# Altium footprint library Demo_BIT.PcbLib: 58 footprints (part 2 of 4)
Each footprint in its own frame and in the unit in brackets; x right, y up, seen from the top. Pads: shape width x height; smd on the part's side, far side on the other; paste and mask are expansions set on the pad; w line width, h text height; cw(c..) or ccw(c..) is an arc to the next point about the centre after c.
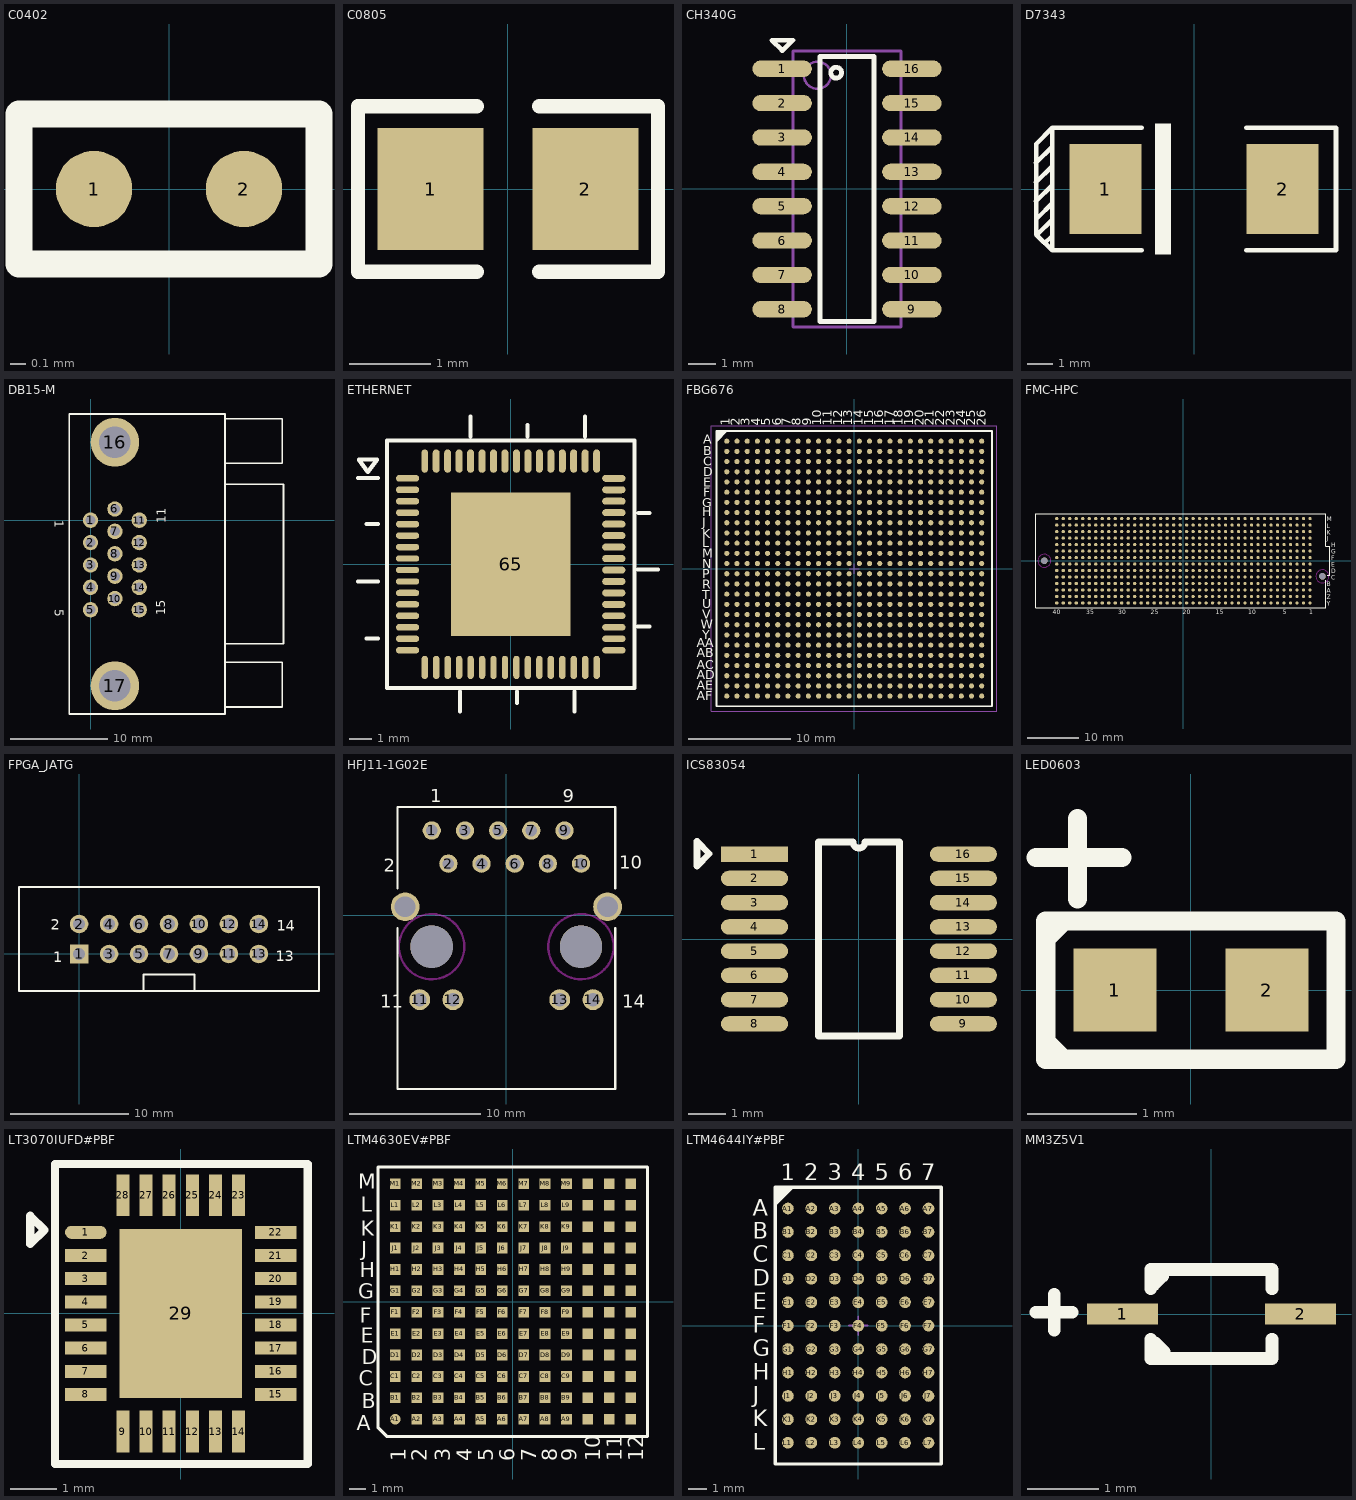
[diagram p1: the footprints below, top view; thin cyan lines are the x and y axes]

## C0402 [mil]
pads (2):
  round 20 smd: 1(-19.68,0) 2(19.68,0)
Top Overlay:
  lines w7: -39.37,-19.68 39.37,-19.68 39.37,19.68 -39.37,19.68 -39.37,-19.68

## C0805 [mm]
pads (2):
  rect 1.3x1.5 smd: 1(-0.95,0) 2(0.95,0)
Top Overlay:
  lines w0.178: -0.381,-1.019 -1.841,-1.019 -1.841,1.019 -0.381,1.019 ; 0.381,-1.019 1.842,-1.019 1.842,1.019 0.381,1.019

## CH340G [mm]
height 1.1
pads (16):
  oval 2.2x0.6 smd: 1(-2.4,4.445) 2(-2.4,3.175) 3(-2.4,1.905) 4(-2.4,0.635) 5(-2.4,-0.635) 6(-2.4,-1.905) 7(-2.4,-3.175) 8(-2.4,-4.445) 9(2.4,-4.445) 10(2.4,-3.175) 11(2.4,-1.905) 12(2.4,-0.635) 13(2.4,0.635) 14(2.4,1.905) 15(2.4,3.175) 16(2.4,4.445)
Top Overlay:
  circle w0.178: c-0.4,4.3 r0.2
  lines w0.178: -2.4,5.125 -2.775,5.5 -2,5.5 -2.375,5.125 ; -1,-4.9 -1,4.9 1,4.9 1,-4.9 -1,-4.9
Mechanical 13:
  circle w0.1: c-1.095,4.205 r0.5
  lines w0.1: -1.995,-5.105 -1.995,5.105 1.995,5.105 1.995,-5.105 -1.995,-5.105

## D7343 [mm]
height 1.1
pads (2):
  rect 2.8x3.5 smd: 1(-3.45,0) 2(3.45,0)
Top Overlay:
  rectangle: -1.524,-2.539 -0.889,2.541
  lines w0.178: -6.151,-0.474 -5.524,0.152 ; -6.151,0.263 -5.524,0.889 ; -6.151,1.025 -5.524,1.651 ; -6.092,-1.761 -5.524,-1.194 ; -6.092,-1.126 -5.524,-0.559 ; -5.817,-2.108 -5.524,-1.829 ; -2.032,-2.388 -5.524,-2.388 ; -2.032,2.388 -5.524,2.388 ; 2.032,-2.388 5.524,-2.388 5.524,2.388 2.032,2.388 ; -5.524,-2.388 -6.147,-1.778 -6.147,1.753 -5.524,2.388 ; -5.524,-2.388 -5.524,2.388

## DB15-M [mm] "VGAĸ"
height 10
pads (17):
  round 1.58 hole 1: 1(0,0) 2(0,-2.3) 3(0,-4.6) 4(0,-6.9) 5(0,-9.2) 6(2.5,1.15) 7(2.5,-1.15) 8(2.5,-3.45) 9(2.5,-5.75) 10(2.5,-8.05) 11(5,0) 12(5,-2.3) 13(5,-4.6) 14(5,-6.9) 15(5,-9.2)
  round 5 hole 3.25: 16(2.5,8) 17(2.5,-17)
Top Overlay:
  lines w0.178: -2.2,10.9 13.8,10.9 13.8,-19.9 -2.2,-19.9 -2.2,10.89 -2.19,10.9 ; 13.8,-14.6 19.68,-14.6 19.68,-19.18 13.84,-19.18 ; 13.8,-12.7 19.8,-12.7 19.8,3.7 13.8,3.7 ; 13.8,10.4 19.67,10.4 19.67,5.83 13.82,5.83
  text "1" at -3.691,0.013 h0.89
  text "5" at -3.691,-9.131 h0.89
  text "11" at 7.722,-0.305 h0.89
  text "15" at 7.671,-9.754 h0.89

## ETHERNET [mm]
height 1.1
pads (65):
  oval 1.016x0.279 smd: 1(-4.5,3.75) 2(-4.5,3.25) 3(-4.5,2.75) 4(-4.5,2.25) 5(-4.5,1.75) 6(-4.5,1.25) 7(-4.5,0.75) 8(-4.5,0.25) 9(-4.5,-0.25) 10(-4.5,-0.75) 11(-4.5,-1.25) 12(-4.5,-1.75) 13(-4.5,-2.25) 14(-4.5,-2.75) 15(-4.5,-3.25) 16(-4.5,-3.75) 33(4.5,-3.75) 34(4.5,-3.25) 35(4.5,-2.75) 36(4.5,-2.25)
  oval 0.279x1.016 smd: 17(-3.75,-4.5) 18(-3.25,-4.5) 19(-2.75,-4.5) 20(-2.25,-4.5) 21(-1.75,-4.5) 22(-1.25,-4.5) 23(-0.75,-4.5) 24(-0.25,-4.5) 25(0.25,-4.5) 26(0.75,-4.5) 27(1.25,-4.5) 28(1.75,-4.5) 29(2.25,-4.5) 30(2.75,-4.5) 31(3.25,-4.5) 32(3.75,-4.5) 64(-3.75,4.5)
  oval 1.016x0.305 smd: 37(4.5,-1.75) 38(4.5,-1.25) 39(4.5,-0.75) 40(4.5,-0.25) 41(4.5,0.25) 42(4.5,0.75) 43(4.5,1.25) 44(4.5,1.75) 45(4.5,2.25) 46(4.5,2.75) 47(4.5,3.25) 48(4.5,3.75)
  oval 0.305x1.016 smd: 49(3.75,4.5) 50(3.25,4.5) 51(2.75,4.5) 52(2.25,4.5) 53(1.75,4.5) 54(1.25,4.5) 55(0.75,4.5) 56(0.25,4.5) 57(-0.25,4.5) 58(-0.75,4.5) 59(-1.25,4.5) 60(-1.75,4.5) 61(-2.25,4.5) 62(-2.75,4.5) 63(-3.25,4.5)
  rect 5.21x6.25 smd: 65(0,0)
Top Overlay:
  lines w0.178: -6.662,-0.743 -5.798,-0.743 ; -6.662,3.757 -5.798,3.757 ; -6.292,-3.243 -5.798,-3.243 ; -6.292,1.757 -5.798,1.757 ; -2.217,-6.414 -2.217,-5.551 ; -1.76,5.575 -1.76,6.438 ; 0.283,-6.044 0.283,-5.551 ; 0.74,5.575 0.74,6.068 ; 2.783,-6.414 2.783,-5.551 ; 3.24,5.575 3.24,6.438 ; 5.563,-2.718 6.056,-2.718 ; 5.563,-0.229 6.426,-0.229 ; 5.566,2.243 6.06,2.243 ; -6.625,4.571 -6.233,4.025 -5.825,4.571 -6.625,4.571 ; -5.4,-5.4 5.4,-5.4 5.4,5.4 -5.4,5.4 -5.4,-5.4

## FBG676 [mm] "BGA, 676-Balls, Body 27x27mm, Pitch 1.0mm"
height 2.54
pads (676):
  round 0.5 smd: A1(-12.5,12.5) A2(-11.5,12.5) A3(-10.5,12.5) A4(-9.5,12.5) A5(-8.5,12.5) A6(-7.5,12.5) A7(-6.5,12.5) A8(-5.5,12.5) A9(-4.5,12.5) A10(-3.5,12.5) A11(-2.5,12.5) A12(-1.5,12.5) A13(-0.5,12.5) A14(0.5,12.5) A15(1.5,12.5) A16(2.5,12.5) A17(3.5,12.5) A18(4.5,12.5) A19(5.5,12.5) A20(6.5,12.5) A21(7.5,12.5) A22(8.5,12.5) A23(9.5,12.5) A24(10.5,12.5) A25(11.5,12.5) A26(12.5,12.5) AA1(-12.5,-7.5) AA2(-11.5,-7.5) AA3(-10.5,-7.5) AA4(-9.5,-7.5) AA5(-8.5,-7.5) AA6(-7.5,-7.5) AA7(-6.5,-7.5) AA8(-5.5,-7.5) AA9(-4.5,-7.5) AA10(-3.5,-7.5) AA11(-2.5,-7.5) AA12(-1.5,-7.5) AA13(-0.5,-7.5) AA14(0.5,-7.5) AA15(1.5,-7.5) AA16(2.5,-7.5) AA17(3.5,-7.5) AA18(4.5,-7.5) AA19(5.5,-7.5) AA20(6.5,-7.5) AA21(7.5,-7.5) AA22(8.5,-7.5) AA23(9.5,-7.5) AA24(10.5,-7.5) AA25(11.5,-7.5) AA26(12.5,-7.5) AB1(-12.5,-8.5) AB2(-11.5,-8.5) AB3(-10.5,-8.5) AB4(-9.5,-8.5) AB5(-8.5,-8.5) AB6(-7.5,-8.5) AB7(-6.5,-8.5) AB8(-5.5,-8.5) AB9(-4.5,-8.5) AB10(-3.5,-8.5) AB11(-2.5,-8.5) AB12(-1.5,-8.5) AB13(-0.5,-8.5) AB14(0.5,-8.5) AB15(1.5,-8.5) AB16(2.5,-8.5) AB17(3.5,-8.5) AB18(4.5,-8.5) AB19(5.5,-8.5) AB20(6.5,-8.5) AB21(7.5,-8.5) AB22(8.5,-8.5) AB23(9.5,-8.5) AB24(10.5,-8.5) AB25(11.5,-8.5) AB26(12.5,-8.5) AC1(-12.5,-9.5) AC2(-11.5,-9.5) AC3(-10.5,-9.5) AC4(-9.5,-9.5) AC5(-8.5,-9.5) AC6(-7.5,-9.5) AC7(-6.5,-9.5) AC8(-5.5,-9.5) AC9(-4.5,-9.5) AC10(-3.5,-9.5) AC11(-2.5,-9.5) AC12(-1.5,-9.5) AC13(-0.5,-9.5) AC14(0.5,-9.5) AC15(1.5,-9.5) AC16(2.5,-9.5) AC17(3.5,-9.5) AC18(4.5,-9.5) AC19(5.5,-9.5) AC20(6.5,-9.5) AC21(7.5,-9.5) AC22(8.5,-9.5) AC23(9.5,-9.5) AC24(10.5,-9.5) AC25(11.5,-9.5) AC26(12.5,-9.5) AD1(-12.5,-10.5) AD2(-11.5,-10.5) AD3(-10.5,-10.5) AD4(-9.5,-10.5) AD5(-8.5,-10.5) AD6(-7.5,-10.5) AD7(-6.5,-10.5) AD8(-5.5,-10.5) AD9(-4.5,-10.5) AD10(-3.5,-10.5) AD11(-2.5,-10.5) AD12(-1.5,-10.5) AD13(-0.5,-10.5) AD14(0.5,-10.5) AD15(1.5,-10.5) AD16(2.5,-10.5) AD17(3.5,-10.5) AD18(4.5,-10.5) AD19(5.5,-10.5) AD20(6.5,-10.5) AD21(7.5,-10.5) AD22(8.5,-10.5) AD23(9.5,-10.5) AD24(10.5,-10.5) AD25(11.5,-10.5) AD26(12.5,-10.5) AE1(-12.5,-11.5) AE2(-11.5,-11.5) AE3(-10.5,-11.5) AE4(-9.5,-11.5) AE5(-8.5,-11.5) AE6(-7.5,-11.5) AE7(-6.5,-11.5) AE8(-5.5,-11.5) AE9(-4.5,-11.5) AE10(-3.5,-11.5) AE11(-2.5,-11.5) AE12(-1.5,-11.5) AE13(-0.5,-11.5) AE14(0.5,-11.5) AE15(1.5,-11.5) AE16(2.5,-11.5) AE17(3.5,-11.5) AE18(4.5,-11.5) AE19(5.5,-11.5) AE20(6.5,-11.5) AE21(7.5,-11.5) AE22(8.5,-11.5) AE23(9.5,-11.5) AE24(10.5,-11.5) AE25(11.5,-11.5) AE26(12.5,-11.5) AF1(-12.5,-12.5) AF2(-11.5,-12.5) AF3(-10.5,-12.5) AF4(-9.5,-12.5) AF5(-8.5,-12.5) AF6(-7.5,-12.5) AF7(-6.5,-12.5) AF8(-5.5,-12.5) AF9(-4.5,-12.5) AF10(-3.5,-12.5) AF11(-2.5,-12.5) AF12(-1.5,-12.5) AF13(-0.5,-12.5) AF14(0.5,-12.5) AF15(1.5,-12.5) AF16(2.5,-12.5) AF17(3.5,-12.5) AF18(4.5,-12.5) AF19(5.5,-12.5) AF20(6.5,-12.5) AF21(7.5,-12.5) AF22(8.5,-12.5) AF23(9.5,-12.5) AF24(10.5,-12.5) AF25(11.5,-12.5) AF26(12.5,-12.5) B1(-12.5,11.5) B2(-11.5,11.5) B3(-10.5,11.5) B4(-9.5,11.5) B5(-8.5,11.5) B6(-7.5,11.5) B7(-6.5,11.5) B8(-5.5,11.5) B9(-4.5,11.5) B10(-3.5,11.5) B11(-2.5,11.5) B12(-1.5,11.5) B13(-0.5,11.5) B14(0.5,11.5) B15(1.5,11.5) B16(2.5,11.5) B17(3.5,11.5) B18(4.5,11.5) B19(5.5,11.5) B20(6.5,11.5) B21(7.5,11.5) B22(8.5,11.5) B23(9.5,11.5) B24(10.5,11.5) B25(11.5,11.5) B26(12.5,11.5) C1(-12.5,10.5) C2(-11.5,10.5) C3(-10.5,10.5) C4(-9.5,10.5) C5(-8.5,10.5) C6(-7.5,10.5) C7(-6.5,10.5) C8(-5.5,10.5) C9(-4.5,10.5) C10(-3.5,10.5) C11(-2.5,10.5) C12(-1.5,10.5) C13(-0.5,10.5) C14(0.5,10.5) C15(1.5,10.5) C16(2.5,10.5) C17(3.5,10.5) C18(4.5,10.5) C19(5.5,10.5) C20(6.5,10.5) C21(7.5,10.5) C22(8.5,10.5) C23(9.5,10.5) C24(10.5,10.5) C25(11.5,10.5) C26(12.5,10.5) D1(-12.5,9.5) D2(-11.5,9.5) D3(-10.5,9.5) D4(-9.5,9.5) D5(-8.5,9.5) D6(-7.5,9.5) D7(-6.5,9.5) D8(-5.5,9.5) D9(-4.5,9.5) D10(-3.5,9.5) D11(-2.5,9.5) D12(-1.5,9.5) D13(-0.5,9.5) D14(0.5,9.5) D15(1.5,9.5) D16(2.5,9.5) D17(3.5,9.5) D18(4.5,9.5) D19(5.5,9.5) D20(6.5,9.5) D21(7.5,9.5) D22(8.5,9.5) D23(9.5,9.5) D24(10.5,9.5) D25(11.5,9.5) D26(12.5,9.5) E1(-12.5,8.5) E2(-11.5,8.5) E3(-10.5,8.5) E4(-9.5,8.5) E5(-8.5,8.5) E6(-7.5,8.5) E7(-6.5,8.5) E8(-5.5,8.5) E9(-4.5,8.5) E10(-3.5,8.5) E11(-2.5,8.5) E12(-1.5,8.5) E13(-0.5,8.5) E14(0.5,8.5) E15(1.5,8.5) E16(2.5,8.5) E17(3.5,8.5) E18(4.5,8.5) E19(5.5,8.5) E20(6.5,8.5) E21(7.5,8.5) E22(8.5,8.5) E23(9.5,8.5) E24(10.5,8.5) E25(11.5,8.5) E26(12.5,8.5) F1(-12.5,7.5) F2(-11.5,7.5) F3(-10.5,7.5) F4(-9.5,7.5) F5(-8.5,7.5) F6(-7.5,7.5) F7(-6.5,7.5) F8(-5.5,7.5) F9(-4.5,7.5) F10(-3.5,7.5) F11(-2.5,7.5) F12(-1.5,7.5) F13(-0.5,7.5) F14(0.5,7.5) F15(1.5,7.5) F16(2.5,7.5) F17(3.5,7.5) F18(4.5,7.5) F19(5.5,7.5) F20(6.5,7.5) F21(7.5,7.5) F22(8.5,7.5) F23(9.5,7.5) F24(10.5,7.5) F25(11.5,7.5) F26(12.5,7.5) G1(-12.5,6.5) G2(-11.5,6.5) G3(-10.5,6.5) G4(-9.5,6.5) G5(-8.5,6.5) G6(-7.5,6.5) G7(-6.5,6.5) G8(-5.5,6.5) G9(-4.5,6.5) G10(-3.5,6.5) G11(-2.5,6.5) G12(-1.5,6.5) G13(-0.5,6.5) G14(0.5,6.5) G15(1.5,6.5) G16(2.5,6.5) G17(3.5,6.5) G18(4.5,6.5) G19(5.5,6.5) G20(6.5,6.5) G21(7.5,6.5) G22(8.5,6.5) G23(9.5,6.5) G24(10.5,6.5) G25(11.5,6.5) G26(12.5,6.5) H1(-12.5,5.5) H2(-11.5,5.5) H3(-10.5,5.5) H4(-9.5,5.5) H5(-8.5,5.5) H6(-7.5,5.5) H7(-6.5,5.5) H8(-5.5,5.5) H9(-4.5,5.5) H10(-3.5,5.5) H11(-2.5,5.5) H12(-1.5,5.5) H13(-0.5,5.5) H14(0.5,5.5) H15(1.5,5.5) H16(2.5,5.5) H17(3.5,5.5) H18(4.5,5.5) H19(5.5,5.5) H20(6.5,5.5) H21(7.5,5.5) H22(8.5,5.5) H23(9.5,5.5) H24(10.5,5.5) H25(11.5,5.5) H26(12.5,5.5) J1(-12.5,4.5) J2(-11.5,4.5) J3(-10.5,4.5) J4(-9.5,4.5) J5(-8.5,4.5) J6(-7.5,4.5) J7(-6.5,4.5) J8(-5.5,4.5) J9(-4.5,4.5) J10(-3.5,4.5) J11(-2.5,4.5) J12(-1.5,4.5) J13(-0.5,4.5) J14(0.5,4.5) J15(1.5,4.5) J16(2.5,4.5) J17(3.5,4.5) J18(4.5,4.5) J19(5.5,4.5) J20(6.5,4.5) J21(7.5,4.5) J22(8.5,4.5) J23(9.5,4.5) J24(10.5,4.5) J25(11.5,4.5) J26(12.5,4.5) K1(-12.5,3.5) K2(-11.5,3.5) K3(-10.5,3.5) K4(-9.5,3.5) K5(-8.5,3.5) K6(-7.5,3.5) K7(-6.5,3.5) K8(-5.5,3.5) K9(-4.5,3.5) K10(-3.5,3.5) K11(-2.5,3.5) K12(-1.5,3.5) K13(-0.5,3.5) K14(0.5,3.5) K15(1.5,3.5) K16(2.5,3.5) K17(3.5,3.5) K18(4.5,3.5) K19(5.5,3.5) K20(6.5,3.5) K21(7.5,3.5) K22(8.5,3.5) K23(9.5,3.5) K24(10.5,3.5) K25(11.5,3.5) K26(12.5,3.5) L1(-12.5,2.5) L2(-11.5,2.5) L3(-10.5,2.5) L4(-9.5,2.5) L5(-8.5,2.5) L6(-7.5,2.5) L7(-6.5,2.5) L8(-5.5,2.5) L9(-4.5,2.5) L10(-3.5,2.5) L11(-2.5,2.5) L12(-1.5,2.5) L13(-0.5,2.5) L14(0.5,2.5) L15(1.5,2.5) L16(2.5,2.5) L17(3.5,2.5) L18(4.5,2.5) L19(5.5,2.5) L20(6.5,2.5) L21(7.5,2.5) L22(8.5,2.5) L23(9.5,2.5) L24(10.5,2.5) L25(11.5,2.5) L26(12.5,2.5) M1(-12.5,1.5) M2(-11.5,1.5) M3(-10.5,1.5) M4(-9.5,1.5) M5(-8.5,1.5) M6(-7.5,1.5) M7(-6.5,1.5) M8(-5.5,1.5) M9(-4.5,1.5) M10(-3.5,1.5) M11(-2.5,1.5) M12(-1.5,1.5) M13(-0.5,1.5) M14(0.5,1.5) M15(1.5,1.5) M16(2.5,1.5) M17(3.5,1.5) M18(4.5,1.5) M19(5.5,1.5) M20(6.5,1.5) M21(7.5,1.5) M22(8.5,1.5) M23(9.5,1.5) M24(10.5,1.5) M25(11.5,1.5) M26(12.5,1.5) N1(-12.5,0.5) N2(-11.5,0.5) N3(-10.5,0.5) N4(-9.5,0.5) N5(-8.5,0.5) N6(-7.5,0.5) N7(-6.5,0.5) N8(-5.5,0.5) N9(-4.5,0.5) N10(-3.5,0.5) N11(-2.5,0.5) N12(-1.5,0.5) N13(-0.5,0.5) N14(0.5,0.5) N15(1.5,0.5) N16(2.5,0.5) N17(3.5,0.5) N18(4.5,0.5) N19(5.5,0.5) N20(6.5,0.5) N21(7.5,0.5) N22(8.5,0.5) N23(9.5,0.5) N24(10.5,0.5) N25(11.5,0.5) N26(12.5,0.5) P1(-12.5,-0.5) P2(-11.5,-0.5) P3(-10.5,-0.5) P4(-9.5,-0.5) P5(-8.5,-0.5) P6(-7.5,-0.5) P7(-6.5,-0.5) P8(-5.5,-0.5) P9(-4.5,-0.5) P10(-3.5,-0.5) P11(-2.5,-0.5) P12(-1.5,-0.5) P13(-0.5,-0.5) P14(0.5,-0.5) P15(1.5,-0.5) P16(2.5,-0.5) P17(3.5,-0.5) P18(4.5,-0.5) P19(5.5,-0.5) P20(6.5,-0.5) P21(7.5,-0.5) P22(8.5,-0.5) P23(9.5,-0.5) P24(10.5,-0.5) P25(11.5,-0.5) P26(12.5,-0.5) R1(-12.5,-1.5) R2(-11.5,-1.5) R3(-10.5,-1.5) R4(-9.5,-1.5) R5(-8.5,-1.5) R6(-7.5,-1.5) R7(-6.5,-1.5) R8(-5.5,-1.5) R9(-4.5,-1.5) R10(-3.5,-1.5) R11(-2.5,-1.5) R12(-1.5,-1.5) R13(-0.5,-1.5) R14(0.5,-1.5) R15(1.5,-1.5) R16(2.5,-1.5) R17(3.5,-1.5) R18(4.5,-1.5) R19(5.5,-1.5) R20(6.5,-1.5) R21(7.5,-1.5) R22(8.5,-1.5) R23(9.5,-1.5) R24(10.5,-1.5) R25(11.5,-1.5) R26(12.5,-1.5) T1(-12.5,-2.5) T2(-11.5,-2.5) T3(-10.5,-2.5) T4(-9.5,-2.5) T5(-8.5,-2.5) T6(-7.5,-2.5) T7(-6.5,-2.5) T8(-5.5,-2.5) T9(-4.5,-2.5) T10(-3.5,-2.5) T11(-2.5,-2.5) T12(-1.5,-2.5) T13(-0.5,-2.5) T14(0.5,-2.5) T15(1.5,-2.5) T16(2.5,-2.5) T17(3.5,-2.5) T18(4.5,-2.5) T19(5.5,-2.5) T20(6.5,-2.5) T21(7.5,-2.5) T22(8.5,-2.5) T23(9.5,-2.5) T24(10.5,-2.5) T25(11.5,-2.5) T26(12.5,-2.5) U1(-12.5,-3.5) U2(-11.5,-3.5) U3(-10.5,-3.5) U4(-9.5,-3.5) U5(-8.5,-3.5) U6(-7.5,-3.5) U7(-6.5,-3.5) U8(-5.5,-3.5) U9(-4.5,-3.5) U10(-3.5,-3.5) U11(-2.5,-3.5) U12(-1.5,-3.5) U13(-0.5,-3.5) U14(0.5,-3.5) U15(1.5,-3.5) U16(2.5,-3.5) U17(3.5,-3.5) U18(4.5,-3.5) U19(5.5,-3.5) U20(6.5,-3.5) U21(7.5,-3.5) U22(8.5,-3.5) U23(9.5,-3.5) U24(10.5,-3.5) U25(11.5,-3.5) U26(12.5,-3.5) V1(-12.5,-4.5) V2(-11.5,-4.5) V3(-10.5,-4.5) V4(-9.5,-4.5) V5(-8.5,-4.5) V6(-7.5,-4.5) V7(-6.5,-4.5) V8(-5.5,-4.5) V9(-4.5,-4.5) V10(-3.5,-4.5) V11(-2.5,-4.5) V12(-1.5,-4.5) V13(-0.5,-4.5) V14(0.5,-4.5) V15(1.5,-4.5) V16(2.5,-4.5) V17(3.5,-4.5) V18(4.5,-4.5) V19(5.5,-4.5) V20(6.5,-4.5) V21(7.5,-4.5) V22(8.5,-4.5) V23(9.5,-4.5) V24(10.5,-4.5) V25(11.5,-4.5) V26(12.5,-4.5) W1(-12.5,-5.5) W2(-11.5,-5.5) W3(-10.5,-5.5) W4(-9.5,-5.5) W5(-8.5,-5.5) W6(-7.5,-5.5) W7(-6.5,-5.5) W8(-5.5,-5.5) W9(-4.5,-5.5) W10(-3.5,-5.5) W11(-2.5,-5.5) W12(-1.5,-5.5) W13(-0.5,-5.5) W14(0.5,-5.5) W15(1.5,-5.5) W16(2.5,-5.5) W17(3.5,-5.5) W18(4.5,-5.5) W19(5.5,-5.5) W20(6.5,-5.5) W21(7.5,-5.5) W22(8.5,-5.5) W23(9.5,-5.5) W24(10.5,-5.5) W25(11.5,-5.5) W26(12.5,-5.5) Y1(-12.5,-6.5) Y2(-11.5,-6.5) Y3(-10.5,-6.5) Y4(-9.5,-6.5) Y5(-8.5,-6.5) Y6(-7.5,-6.5) Y7(-6.5,-6.5) Y8(-5.5,-6.5) Y9(-4.5,-6.5) Y10(-3.5,-6.5) Y11(-2.5,-6.5) Y12(-1.5,-6.5) Y13(-0.5,-6.5) Y14(0.5,-6.5) Y15(1.5,-6.5) Y16(2.5,-6.5) Y17(3.5,-6.5) Y18(4.5,-6.5) Y19(5.5,-6.5) Y20(6.5,-6.5) Y21(7.5,-6.5) Y22(8.5,-6.5) Y23(9.5,-6.5) Y24(10.5,-6.5) Y25(11.5,-6.5) Y26(12.5,-6.5)
Top Overlay:
  region: -12.5,13.5 -13.5,12.5 -13.5,13.5
  lines w0.178: -13.5,12.5 -12.5,13.5 ; -13.5,-13.5 -13.5,13.5 13.5,13.5 13.5,-13.5 -13.5,-13.5
  text "16" at 2.867,14.024 h0.89
  text "17" at 3.883,14.024 h0.89
  text "24" at 10.868,14.024 h0.89
  text "25" at 11.884,14.024 h0.89
  text "22" at 8.836,14.024 h0.89
  text "23" at 9.852,14.024 h0.89
  text "20" at 6.804,14.024 h0.89
  text "21" at 7.82,14.024 h0.89
  text "18" at 4.772,14.024 h0.89
  text "19" at 5.788,14.024 h0.89
  text "4" at -9.198,14.024 h0.89
  text "3" at -10.231,14.009 h0.89
  text "6" at -7.166,14.024 h0.89
  text "5" at -8.231,14.009 h0.89
  text "8" at -5.261,14.024 h0.89
  text "7" at -6.231,14.009 h0.89
  text "10" at -3.229,14.024 h0.89
  text "12" at -1.197,14.024 h0.89
  text "11" at -2.213,14.024 h0.89
  text "14" at 0.835,14.024 h0.89
  text "13" at -0.181,14.024 h0.89
  text "15" at 1.851,14.024 h0.89
  text "2" at -11.23,14.024 h0.89
  text "1" at -12.231,14.009 h0.89
  text "9" at -4.231,14.009 h0.89
  text "26" at 12.9,14.024 h0.89
  text "R" at -14.913,-1.978 h0.89
  text "B" at -14.786,11.103 h0.89
  text "A" at -14.786,12.246 h0.89
  text "C" at -14.786,10.087 h0.89
  text "D" at -14.786,9.071 h0.89
  text "E" at -14.786,8.055 h0.89
  text "F" at -14.786,7.039 h0.89
  text "G" at -14.913,6.023 h0.89
  text "H" at -14.913,5.134 h0.89
  text "J" at -14.913,4.118 h0.89
  text "K" at -14.913,2.975 h0.89
  text "L" at -14.913,2.086 h0.89
  text "M" at -14.913,1.07 h0.89
  text "P" at -14.913,-0.962 h0.89
  text "U" at -14.913,-3.883 h0.89
  text "T" at -14.913,-2.994 h0.89
  text "V" at -14.913,-4.899 h0.89
  text "W" at -15.04,-5.915 h0.89
  text "Y" at -14.913,-6.931 h0.89
  text "AB" at -15.421,-8.709 h0.89
  text "AC" at -15.421,-9.852 h0.89
  text "AD" at -15.421,-10.868 h0.89
  text "AF" at -15.421,-12.9 h0.89
  text "N" at -14.913,0.054 h0.89
  text "AA" at -15.421,-7.693 h0.89
  text "AE" at -15.421,-11.884 h0.89
Mechanical 13:
  lines w0.1: -13.5,-13.5 -13.5,13.5 13.5,13.5 13.5,-13.5 -13.5,-13.5
Mechanical 15:
  lines w0.05: -14,-14 -14,14 14,14 14,-14 -14,-14
  lines w0.1: -0.5,0 0.5,0 ; 0,-0.5 0,0.5
3D body: height 2.54, standoff 0.4, extent -13.5,-13.5 13.5,13.5

## FMC-HPC [mm]
height 1.3
pads (562):
  round 0.64 smd: A1(24.765,-5.715) A2(23.495,-5.715) A3(22.225,-5.715) A4(20.955,-5.715) A5(19.685,-5.715) A6(18.415,-5.715) A7(17.145,-5.715) A8(15.875,-5.715) A9(14.605,-5.715) A10(13.335,-5.715) A11(12.065,-5.715) A12(10.795,-5.715) A13(9.525,-5.715) A14(8.255,-5.715) A15(6.985,-5.715) A16(5.715,-5.715) A17(4.445,-5.715) A18(3.175,-5.715) A19(1.905,-5.715) A20(0.635,-5.715) A21(-0.635,-5.715) A22(-1.905,-5.715) A23(-3.175,-5.715) A24(-4.445,-5.715) A25(-5.715,-5.715) A26(-6.985,-5.715) A27(-8.255,-5.715) A28(-9.525,-5.715) A29(-10.795,-5.715) A30(-12.065,-5.715) A31(-13.335,-5.715) A32(-14.605,-5.715) A33(-15.875,-5.715) A34(-17.145,-5.715) A35(-18.415,-5.715) A36(-19.685,-5.715) A37(-20.955,-5.715) A38(-22.225,-5.715) A39(-23.495,-5.715) A40(-24.765,-5.715) B1(24.765,-4.445) B2(23.495,-4.445) B3(22.225,-4.445) B4(20.955,-4.445) B5(19.685,-4.445) B6(18.415,-4.445) B7(17.145,-4.445) B8(15.875,-4.445) B9(14.605,-4.445) B10(13.335,-4.445) B11(12.065,-4.445) B12(10.795,-4.445) B13(9.525,-4.445) B14(8.255,-4.445) B15(6.985,-4.445) B16(5.715,-4.445) B17(4.445,-4.445) B18(3.175,-4.445) B19(1.905,-4.445) B20(0.635,-4.445) B21(-0.635,-4.445) B22(-1.905,-4.445) B23(-3.175,-4.445) B24(-4.445,-4.445) B25(-5.715,-4.445) B26(-6.985,-4.445) B27(-8.255,-4.445) B28(-9.525,-4.445) B29(-10.795,-4.445) B30(-12.065,-4.445) B31(-13.335,-4.445) B32(-14.605,-4.445) B33(-15.875,-4.445) B34(-17.145,-4.445) B35(-18.415,-4.445) B36(-19.685,-4.445) B37(-20.955,-4.445) B38(-22.225,-4.445) B39(-23.495,-4.445) B40(-24.765,-4.445) C1(24.765,-3.175) C2(23.495,-3.175) C3(22.225,-3.175) C4(20.955,-3.175) C5(19.685,-3.175) C6(18.415,-3.175) C7(17.145,-3.175) C8(15.875,-3.175) C9(14.605,-3.175) C10(13.335,-3.175) C11(12.065,-3.175) C12(10.795,-3.175) C13(9.525,-3.175) C14(8.255,-3.175) C15(6.985,-3.175) C16(5.715,-3.175) C17(4.445,-3.175) C18(3.175,-3.175) C19(1.905,-3.175) C20(0.635,-3.175) C21(-0.635,-3.175) C22(-1.905,-3.175) C23(-3.175,-3.175) C24(-4.445,-3.175) C25(-5.715,-3.175) C26(-6.985,-3.175) C27(-8.255,-3.175) C28(-9.525,-3.175) C29(-10.795,-3.175) C30(-12.065,-3.175) C31(-13.335,-3.175) C32(-14.605,-3.175) C33(-15.875,-3.175) C34(-17.145,-3.175) C35(-18.415,-3.175) C36(-19.685,-3.175) C37(-20.955,-3.175) C38(-22.225,-3.175) C39(-23.495,-3.175) C40(-24.765,-3.175) D1(24.765,-1.905) D2(23.495,-1.905) D3(22.225,-1.905) D4(20.955,-1.905) D5(19.685,-1.905) D6(18.415,-1.905) D7(17.145,-1.905) D8(15.875,-1.905) D9(14.605,-1.905) D10(13.335,-1.905) D11(12.065,-1.905) D12(10.795,-1.905) D13(9.525,-1.905) D14(8.255,-1.905) D15(6.985,-1.905) D16(5.715,-1.905) D17(4.445,-1.905) D18(3.175,-1.905) D19(1.905,-1.905) D20(0.635,-1.905) D21(-0.635,-1.905) D22(-1.905,-1.905) D23(-3.175,-1.905) D24(-4.445,-1.905) D25(-5.715,-1.905) D26(-6.985,-1.905) D27(-8.255,-1.905) D28(-9.525,-1.905) D29(-10.795,-1.905) D30(-12.065,-1.905) D31(-13.335,-1.905) D32(-14.605,-1.905) D33(-15.875,-1.905) D34(-17.145,-1.905) D35(-18.415,-1.905) D36(-19.685,-1.905) D37(-20.955,-1.905) D38(-22.225,-1.905) D39(-23.495,-1.905) D40(-24.765,-1.905) E1(24.765,-0.635) E2(23.495,-0.635) E3(22.225,-0.635) E4(20.955,-0.635) E5(19.685,-0.635) E6(18.415,-0.635) E7(17.145,-0.635) E8(15.875,-0.635) E9(14.605,-0.635) E10(13.335,-0.635) E11(12.065,-0.635) E12(10.795,-0.635) E13(9.525,-0.635) E14(8.255,-0.635) E15(6.985,-0.635) E16(5.715,-0.635) E17(4.445,-0.635) E18(3.175,-0.635) E19(1.905,-0.635) E20(0.635,-0.635) E21(-0.635,-0.635) E22(-1.905,-0.635) E23(-3.175,-0.635) E24(-4.445,-0.635) E25(-5.715,-0.635) E26(-6.985,-0.635) E27(-8.255,-0.635) E28(-9.525,-0.635) E29(-10.795,-0.635) E30(-12.065,-0.635) E31(-13.335,-0.635) E32(-14.605,-0.635) E33(-15.875,-0.635) E34(-17.145,-0.635) E35(-18.415,-0.635) E36(-19.685,-0.635) E37(-20.955,-0.635) E38(-22.225,-0.635) E39(-23.495,-0.635) E40(-24.765,-0.635) F1(24.765,0.635) F2(23.495,0.635) F3(22.225,0.635) F4(20.955,0.635) F5(19.685,0.635) F6(18.415,0.635) F7(17.145,0.635) F8(15.875,0.635) F9(14.605,0.635) F10(13.335,0.635) F11(12.065,0.635) F12(10.795,0.635) F13(9.525,0.635) F14(8.255,0.635) F15(6.985,0.635) F16(5.715,0.635) F17(4.445,0.635) F18(3.175,0.635) F19(1.905,0.635) F20(0.635,0.635) F21(-0.635,0.635) F22(-1.905,0.635) F23(-3.175,0.635) F24(-4.445,0.635) F25(-5.715,0.635) F26(-6.985,0.635) F27(-8.255,0.635) F28(-9.525,0.635) F29(-10.795,0.635) F30(-12.065,0.635) F31(-13.335,0.635) F32(-14.605,0.635) F33(-15.875,0.635) F34(-17.145,0.635) F35(-18.415,0.635) F36(-19.685,0.635) F37(-20.955,0.635) F38(-22.225,0.635) F39(-23.495,0.635) F40(-24.765,0.635) G1(24.765,1.905) G2(23.495,1.905) G3(22.225,1.905) G4(20.955,1.905) G5(19.685,1.905) G6(18.415,1.905) G7(17.145,1.905) G8(15.875,1.905) G9(14.605,1.905) G10(13.335,1.905) G11(12.065,1.905) G12(10.795,1.905) G13(9.525,1.905) G14(8.255,1.905) G15(6.985,1.905) G16(5.715,1.905) G17(4.445,1.905) G18(3.175,1.905) G19(1.905,1.905) G20(0.635,1.905) G21(-0.635,1.905) G22(-1.905,1.905) G23(-3.175,1.905) G24(-4.445,1.905) G25(-5.715,1.905) G26(-6.985,1.905) G27(-8.255,1.905) G28(-9.525,1.905) G29(-10.795,1.905) G30(-12.065,1.905) G31(-13.335,1.905) G32(-14.605,1.905) G33(-15.875,1.905) G34(-17.145,1.905) G35(-18.415,1.905) G36(-19.685,1.905) G37(-20.955,1.905) G38(-22.225,1.905) G39(-23.495,1.905) G40(-24.765,1.905) H1(24.765,3.175) H2(23.495,3.175) H3(22.225,3.175) H4(20.955,3.175) H5(19.685,3.175) H6(18.415,3.175) H7(17.145,3.175) H8(15.875,3.175) H9(14.605,3.175) H10(13.335,3.175) H11(12.065,3.175) H12(10.795,3.175) H13(9.525,3.175) H14(8.255,3.175) H15(6.985,3.175) H16(5.715,3.175) H17(4.445,3.175) H18(3.175,3.175) H19(1.905,3.175) H20(0.635,3.175) H21(-0.635,3.175) H22(-1.905,3.175) H23(-3.175,3.175) H24(-4.445,3.175) H25(-5.715,3.175) H26(-6.985,3.175) H27(-8.255,3.175) H28(-9.525,3.175) H29(-10.795,3.175) H30(-12.065,3.175) H31(-13.335,3.175) H32(-14.605,3.175) H33(-15.875,3.175) H34(-17.145,3.175) H35(-18.415,3.175) H36(-19.685,3.175) H37(-20.955,3.175) H38(-22.225,3.175) H39(-23.495,3.175) H40(-24.765,3.175) J1(24.765,4.445) J2(23.495,4.445) J3(22.225,4.445) J4(20.955,4.445) J5(19.685,4.445) J6(18.415,4.445) J7(17.145,4.445) J8(15.875,4.445) J9(14.605,4.445) J10(13.335,4.445) J11(12.065,4.445) J12(10.795,4.445) J13(9.525,4.445) J14(8.255,4.445) J15(6.985,4.445) J16(5.715,4.445) J17(4.445,4.445) J18(3.175,4.445) J19(1.905,4.445) J20(0.635,4.445) J21(-0.635,4.445) J22(-1.905,4.445) J23(-3.175,4.445) J24(-4.445,4.445) J25(-5.715,4.445) J26(-6.985,4.445) J27(-8.255,4.445) J28(-9.525,4.445) J29(-10.795,4.445) J30(-12.065,4.445) J31(-13.335,4.445) J32(-14.605,4.445) J33(-15.875,4.445) J34(-17.145,4.445) J35(-18.415,4.445) J36(-19.685,4.445) J37(-20.955,4.445) J38(-22.225,4.445) J39(-23.495,4.445) J40(-24.765,4.445) K1(24.765,5.715) K2(23.495,5.715) K3(22.225,5.715) K4(20.955,5.715) K5(19.685,5.715) K6(18.415,5.715) K7(17.145,5.715) K8(15.875,5.715) K9(14.605,5.715) K10(13.335,5.715) K11(12.065,5.715) K12(10.795,5.715) K13(9.525,5.715) K14(8.255,5.715) K15(6.985,5.715) K16(5.715,5.715) K17(4.445,5.715) K18(3.175,5.715) K19(1.905,5.715) K20(0.635,5.715) K21(-0.635,5.715) K22(-1.905,5.715) K23(-3.175,5.715) K24(-4.445,5.715) K25(-5.715,5.715) K26(-6.985,5.715) K27(-8.255,5.715) K28(-9.525,5.715) K29(-10.795,5.715) K30(-12.065,5.715) K31(-13.335,5.715) K32(-14.605,5.715) K33(-15.875,5.715) K34(-17.145,5.715) K35(-18.415,5.715) K36(-19.685,5.715) K37(-20.955,5.715) K38(-22.225,5.715) K39(-23.495,5.715) K40(-24.765,5.715) L1(24.765,6.985) L2(23.495,6.985) L3(22.225,6.985) L4(20.955,6.985) L5(19.685,6.985) L6(18.415,6.985) L7(17.145,6.985) L8(15.875,6.985) L9(14.605,6.985) L10(13.335,6.985) L11(12.065,6.985) L12(10.795,6.985) L13(9.525,6.985) L14(8.255,6.985) L15(6.985,6.985) L16(5.715,6.985) L17(4.445,6.985) L18(3.175,6.985) L19(1.905,6.985) L20(0.635,6.985) L21(-0.635,6.985) L22(-1.905,6.985) L23(-3.175,6.985) L24(-4.445,6.985) L25(-5.715,6.985) L26(-6.985,6.985) L27(-8.255,6.985) L28(-9.525,6.985) L29(-10.795,6.985) L30(-12.065,6.985) L31(-13.335,6.985) L32(-14.605,6.985) L33(-15.875,6.985) L34(-17.145,6.985) L35(-18.415,6.985) L36(-19.685,6.985) L37(-20.955,6.985) L38(-22.225,6.985) L39(-23.495,6.985) L40(-24.765,6.985) M1(24.765,8.255) M2(23.495,8.255) M3(22.225,8.255) M4(20.955,8.255) M5(19.685,8.255) M6(18.415,8.255) M7(17.145,8.255) M8(15.875,8.255) M9(14.605,8.255) M10(13.335,8.255) M11(12.065,8.255) M12(10.795,8.255) M13(9.525,8.255) M14(8.255,8.255) M15(6.985,8.255) M16(5.715,8.255) M17(4.445,8.255) M18(3.175,8.255) M19(1.905,8.255) M20(0.635,8.255) M21(-0.635,8.255) M22(-1.905,8.255) M23(-3.175,8.255) M24(-4.445,8.255) M25(-5.715,8.255) M26(-6.985,8.255) M27(-8.255,8.255) M28(-9.525,8.255) M29(-10.795,8.255) M30(-12.065,8.255) M31(-13.335,8.255) M32(-14.605,8.255) M33(-15.875,8.255) M34(-17.145,8.255) M35(-18.415,8.255) M36(-19.685,8.255) M37(-20.955,8.255) M38(-22.225,8.255) M39(-23.495,8.255) M40(-24.765,8.255) Y1(24.765,-8.255) Y2(23.495,-8.255) Y3(22.225,-8.255) Y4(20.955,-8.255) Y5(19.685,-8.255) Y6(18.415,-8.255) Y7(17.145,-8.255) Y8(15.875,-8.255) Y9(14.605,-8.255) Y10(13.335,-8.255) Y11(12.065,-8.255) Y12(10.795,-8.255) Y13(9.525,-8.255) Y14(8.255,-8.255) Y15(6.985,-8.255) Y16(5.715,-8.255) Y17(4.445,-8.255) Y18(3.175,-8.255) Y19(1.905,-8.255) Y20(0.635,-8.255) Y21(-0.635,-8.255) Y22(-1.905,-8.255) Y23(-3.175,-8.255) Y24(-4.445,-8.255) Y25(-5.715,-8.255) Y26(-6.985,-8.255) Y27(-8.255,-8.255) Y28(-9.525,-8.255) Y29(-10.795,-8.255) Y30(-12.065,-8.255) Y31(-13.335,-8.255) Y32(-14.605,-8.255) Y33(-15.875,-8.255) Y34(-17.145,-8.255) Y35(-18.415,-8.255) Y36(-19.685,-8.255) Y37(-20.955,-8.255) Y38(-22.225,-8.255) Y39(-23.495,-8.255) Y40(-24.765,-8.255) Z1(24.765,-6.985) Z2(23.495,-6.985) Z3(22.225,-6.985) Z4(20.955,-6.985) Z5(19.685,-6.985) Z6(18.415,-6.985) Z7(17.145,-6.985) Z8(15.875,-6.985) Z9(14.605,-6.985) Z10(13.335,-6.985) Z11(12.065,-6.985) Z12(10.795,-6.985) Z13(9.525,-6.985) Z14(8.255,-6.985) Z15(6.985,-6.985) Z16(5.715,-6.985) Z17(4.445,-6.985) Z18(3.175,-6.985) Z19(1.905,-6.985) Z20(0.635,-6.985) Z21(-0.635,-6.985) Z22(-1.905,-6.985) Z23(-3.175,-6.985) Z24(-4.445,-6.985) Z25(-5.715,-6.985) Z26(-6.985,-6.985) Z27(-8.255,-6.985) Z28(-9.525,-6.985) Z29(-10.795,-6.985) Z30(-12.065,-6.985) Z31(-13.335,-6.985) Z32(-14.605,-6.985) Z33(-15.875,-6.985) Z34(-17.145,-6.985) Z35(-18.415,-6.985) Z36(-19.685,-6.985) Z37(-20.955,-6.985) Z38(-22.225,-6.985) Z39(-23.495,-6.985) Z40(-24.765,-6.985)
  round 1.27 hole 1.27 unplated: ""(-27.191,0) ""(27.191,-3.048)
Top Overlay:
  lines w0.178: 27.813,-3.81 27.813,-9.157 -28.829,-9.157 -28.829,9.157 27.813,9.157 27.813,2.845 28.651,2.845 28.651,-2.845 28.118,-2.845
  text "M" at 28.067,7.747 h0.89
  text "L" at 28.067,6.35 h0.89
  text "K" at 28.067,5.08 h0.89
  text "J" at 28.067,3.937 h0.89
  text "H" at 28.956,2.667 h0.89
  text "G" at 28.956,1.397 h0.89
  text "F" at 28.956,0.127 h0.89
  text "E" at 28.956,-1.143 h0.89
  text "D" at 28.956,-2.413 h0.89
  text "C" at 28.956,-3.683 h0.89
  text "B" at 28.067,-4.953 h0.89
  text "A" at 28.067,-6.223 h0.89
  text "Z" at 28.067,-7.493 h0.89
  text "Y" at 28.067,-8.763 h0.89
  text "40" at -25.527,-10.414 h0.89
  text "35" at -19.05,-10.414 h0.89
  text "30" at -12.7,-10.414 h0.89
  text "25" at -6.35,-10.414 h0.89
  text "20" at -0.127,-10.414 h0.89
  text "15" at 6.35,-10.414 h0.89
  text "10" at 12.7,-10.414 h0.89
  text "5" at 19.431,-10.414 h0.89
  text "1" at 24.638,-10.414 h0.89
Keep-Out Layer:
  circle w0.178: c27.191,-3.048 r1.27
  circle w0.178: c-27.191,0 r1.27

## FPGA_JATG [mil]
pads (14):
  rect 62x62 hole 40: 1(0,0)
  round 62 hole 40: 2(0,100) 3(100,0) 4(100,100) 5(200,0) 6(200,100) 7(300,0) 8(300,100) 9(400,0) 10(400,100) 11(500,0) 12(500,100) 13(600,0) 14(600,100)
Top Overlay:
  lines w7: 215.35,-123.23 215.35,-68.11 384.65,-68.11 384.65,-123.23 ; -200.59,-123.23 800.59,-123.23 800.59,223.23 -200.59,223.23 -200.59,-123.23
  text "1" at -86,-28 h35
  text "13" at 657,-25 h35
  text "2" at -94,80 h35
  text "14" at 659,78 h35
Bottom Overlay:
  lines w7: 215.35,-123.34 215.35,-68.11 384.65,-68.11 384.65,-123.34 ; 800.59,-123.23 -200.59,-123.23 -200.59,223.23 800.59,223.23 800.79,-123.23
  text "13" at 705,-25 h35
  text "1" at -67,-29 h35
  text "2" at -70,80 h35
  text "14" at 710,80 h35

## HFJ11-1G02E [mm]
pads (18):
  round 1.4 hole 0.89: 1(-5.71,6.475) 2(-4.44,3.935) 3(-3.17,6.475) 4(-1.9,3.935) 5(-0.63,6.475) 6(0.64,3.935) 7(1.91,6.475) 8(3.18,3.935) 9(4.45,6.475) 10(5.72,3.935)
  round 1.6 hole 1.02: 11(-6.63,-6.475) 12(-4.09,-6.475) 13(4.09,-6.475) 14(6.63,-6.475)
  round 2.2 hole 1.6: ""(-7.745,0.635) ""(7.745,0.635)
  round 3.25 hole 3.25 unplated: ""(-5.715,-2.415) ""(5.715,-2.415)
Top Overlay:
  lines w0.178: -8.33,-1.016 -8.33,-13.315 8.33,-13.315 8.33,-1.016 ; -8.33,2.032 -8.33,8.275 8.33,8.275 8.33,2.032
  text "11" at -9.652,-7.112 h1.02
  text "14" at 8.89,-7.112 h1.02
  text "2" at -9.398,3.302 h1.02
  text "10" at 8.636,3.556 h1.02
  text "9" at 4.318,8.636 h1.02
  text "1" at -5.842,8.636 h1.02
Keep-Out Layer:
  circle w0.178: c5.715,-2.415 r2.5
  circle w0.178: c-5.715,-2.415 r2.5

## ICS83054 [mm]
pads (16):
  rect 1.8x0.41 smd: 1(-2.8,2.275)
  oval 1.8x0.41 smd: 2(-2.8,1.625) 3(-2.8,0.975) 4(-2.8,0.325) 5(-2.8,-0.325) 6(-2.8,-0.975) 7(-2.8,-1.625) 8(-2.8,-2.275) 9(2.8,-2.275) 10(2.8,-1.625) 11(2.8,-0.975) 12(2.8,-0.325) 13(2.8,0.325) 14(2.8,0.975) 15(2.8,1.625) 16(2.8,2.275)
Top Overlay:
  lines w0.178: -4.343,1.956 -4.013,2.286 -4.343,2.616 -4.343,1.956 ; -1.087,-2.6 1.087,-2.6 1.087,2.6 0.162,2.6 cw(c0,2.6) -0.162,2.6 -1.087,2.6 -1.087,-2.6

## LED0603 [mil]
height 43.31
pads (2):
  rect 30x30 smd: 1(-27.5,0) 2(27.5,0)
Top Overlay:
  lines w7: -56,48 -25,48 ; -52.5,-18.5 -46.49,-24.51 ; -52.01,18.99 -46,25 ; -41,33 -41,62 ; -52.5,-25 52.5,-25 52.5,25 -52.5,25 -52.5,-25

## LT3070IUFD#PBF [mm]
height 1.1
pads (29):
  oval 0.9x0.28 smd: 1(-2.05,1.75)
  rect 0.9x0.28 smd: 2(-2.05,1.25) 3(-2.05,0.75) 4(-2.05,0.25) 5(-2.05,-0.25) 6(-2.05,-0.75) 7(-2.05,-1.25) 8(-2.05,-1.75) 15(2.05,-1.75) 16(2.05,-1.25) 17(2.05,-0.75) 18(2.05,-0.25) 19(2.05,0.25) 20(2.05,0.75) 21(2.05,1.25) 22(2.05,1.75)
  rect 0.28x0.9 smd: 9(-1.25,-2.55) 10(-0.75,-2.55) 11(-0.25,-2.55) 12(0.25,-2.55) 13(0.75,-2.55) 14(1.25,-2.55) 23(1.25,2.55) 24(0.75,2.55) 25(0.25,2.55) 26(-0.25,2.55) 27(-0.75,2.55) 28(-1.25,2.55)
  rect 2.65x3.65 smd: 29(0,0)
Top Overlay:
  lines w0.178: -3.251,1.499 -2.946,1.803 -3.251,2.108 -3.251,1.499 ; -2.718,-3.251 -2.718,3.226 2.743,3.226 2.743,-3.251 -2.718,-3.251

## LTM4630EV#PBF [mm]
height 1.1
pads (144):
  round 0.635 smd: A1(-6.985,-6.985)
  rect 0.635x0.635 smd: A2(-5.715,-6.985) A3(-4.445,-6.985) A4(-3.175,-6.985) A5(-1.905,-6.985) A6(-0.635,-6.985) A7(0.635,-6.985) A8(1.905,-6.985) A9(3.175,-6.985) A10(4.445,-6.985) A11(5.715,-6.985) A12(6.985,-6.985) B1(-6.985,-5.715) B2(-5.715,-5.715) B3(-4.445,-5.715) B4(-3.175,-5.715) B5(-1.905,-5.715) B6(-0.635,-5.715) B7(0.635,-5.715) B8(1.905,-5.715) B9(3.175,-5.715) B10(4.445,-5.715) B11(5.715,-5.715) B12(6.985,-5.715) C1(-6.985,-4.445) C2(-5.715,-4.445) C3(-4.445,-4.445) C4(-3.175,-4.445) C5(-1.905,-4.445) C6(-0.635,-4.445) C7(0.635,-4.445) C8(1.905,-4.445) C9(3.175,-4.445) C10(4.445,-4.445) C11(5.715,-4.445) C12(6.985,-4.445) D1(-6.985,-3.175) D2(-5.715,-3.175) D3(-4.445,-3.175) D4(-3.175,-3.175) D5(-1.905,-3.175) D6(-0.635,-3.175) D7(0.635,-3.175) D8(1.905,-3.175) D9(3.175,-3.175) D10(4.445,-3.175) D11(5.715,-3.175) D12(6.985,-3.175) E1(-6.985,-1.905) E2(-5.715,-1.905) E3(-4.445,-1.905) E4(-3.175,-1.905) E5(-1.905,-1.905) E6(-0.635,-1.905) E7(0.635,-1.905) E8(1.905,-1.905) E9(3.175,-1.905) E10(4.445,-1.905) E11(5.715,-1.905) E12(6.985,-1.905) F1(-6.985,-0.635) F2(-5.715,-0.635) F3(-4.445,-0.635) F4(-3.175,-0.635) F5(-1.905,-0.635) F6(-0.635,-0.635) F7(0.635,-0.635) F8(1.905,-0.635) F9(3.175,-0.635) F10(4.445,-0.635) F11(5.715,-0.635) F12(6.985,-0.635) G1(-6.985,0.635) G2(-5.715,0.635) G3(-4.445,0.635) G4(-3.175,0.635) G5(-1.905,0.635) G6(-0.635,0.635) G7(0.635,0.635) G8(1.905,0.635) G9(3.175,0.635) G10(4.445,0.635) G11(5.715,0.635) G12(6.985,0.635) H1(-6.985,1.905) H2(-5.715,1.905) H3(-4.445,1.905) H4(-3.175,1.905) H5(-1.905,1.905) H6(-0.635,1.905) H7(0.635,1.905) H8(1.905,1.905) H9(3.175,1.905) H10(4.445,1.905) H11(5.715,1.905) H12(6.985,1.905) J1(-6.985,3.175) J2(-5.715,3.175) J3(-4.445,3.175) J4(-3.175,3.175) J5(-1.905,3.175) J6(-0.635,3.175) J7(0.635,3.175) J8(1.905,3.175) J9(3.175,3.175) J10(4.445,3.175) J11(5.715,3.175) J12(6.985,3.175) K1(-6.985,4.445) K2(-5.715,4.445) K3(-4.445,4.445) K4(-3.175,4.445) K5(-1.905,4.445) K6(-0.635,4.445) K7(0.635,4.445) K8(1.905,4.445) K9(3.175,4.445) K10(4.445,4.445) K11(5.715,4.445) K12(6.985,4.445) L1(-6.985,5.715) L2(-5.715,5.715) L3(-4.445,5.715) L4(-3.175,5.715) L5(-1.905,5.715) L6(-0.635,5.715) L7(0.635,5.715) L8(1.905,5.715) L9(3.175,5.715) L10(4.445,5.715) L11(5.715,5.715) L12(6.985,5.715) M1(-6.985,6.985) M2(-5.715,6.985) M3(-4.445,6.985) M4(-3.175,6.985) M5(-1.905,6.985) M6(-0.635,6.985) M7(0.635,6.985) M8(1.905,6.985) M9(3.175,6.985) M10(4.445,6.985) M11(5.715,6.985) M12(6.985,6.985)
Top Overlay:
  lines w0.178: -8,-7.493 -8,8 8,8 8,-8 -7.493,-8 -8,-7.493
  text "L" at -9.017,5.334 h0.89
  text "J" at -8.992,2.692 h0.89
  text "K" at -9.017,3.912 h0.89
  text "H" at -9.093,1.448 h0.89
  text "G" at -9.195,0.178 h0.89
  text "E" at -9.017,-2.438 h0.89
  text "F" at -9.093,-1.245 h0.89
  text "B" at -8.966,-6.325 h0.89
  text "A" at -8.433,-7.645 h0.89
  text "C" at -9.144,-5.004 h0.89
  text "M" at -9.195,6.706 h0.89
  text "D" at -8.966,-3.734 h0.89
  text "4" at -2.438,-9.474 h0.89
  text "3" at -3.708,-9.474 h0.89
  text "5" at -1.168,-9.474 h0.89
  text "2" at -5.105,-9.474 h0.89
  text "1" at -6.375,-9.474 h0.89
  text "6" at 0.102,-9.474 h0.89
  text "7" at 1.372,-9.474 h0.89
  text "8" at 2.642,-9.474 h0.89
  text "9" at 3.785,-9.474 h0.89
  text "10" at 5.182,-9.474 h0.89
  text "11" at 6.452,-9.474 h0.89
  text "12" at 7.722,-9.474 h0.89

## LTM4644IY#PBF [mm]
height 5.21
pads (77):
  round 0.635 smd: A1(-3.81,6.35) A2(-2.54,6.35) A3(-1.27,6.35) A4(0,6.35) A5(1.27,6.35) A6(2.54,6.35) A7(3.81,6.35) B1(-3.81,5.08) B2(-2.54,5.08) B3(-1.27,5.08) B4(0,5.08) B5(1.27,5.08) B6(2.54,5.08) B7(3.81,5.08) C1(-3.81,3.81) C2(-2.54,3.81) C3(-1.27,3.81) C4(0,3.81) C5(1.27,3.81) C6(2.54,3.81) C7(3.81,3.81) D1(-3.81,2.54) D2(-2.54,2.54) D3(-1.27,2.54) D4(0,2.54) D5(1.27,2.54) D6(2.54,2.54) D7(3.81,2.54) E1(-3.81,1.27) E2(-2.54,1.27) E3(-1.27,1.27) E4(0,1.27) E5(1.27,1.27) E6(2.54,1.27) E7(3.81,1.27) F1(-3.81,0) F2(-2.54,0) F3(-1.27,0) F4(0,0) F5(1.27,0) F6(2.54,0) F7(3.81,0) G1(-3.81,-1.27) G2(-2.54,-1.27) G3(-1.27,-1.27) G4(0,-1.27) G5(1.27,-1.27) G6(2.54,-1.27) G7(3.81,-1.27) H1(-3.81,-2.54) H2(-2.54,-2.54) H3(-1.27,-2.54) H4(0,-2.54) H5(1.27,-2.54) H6(2.54,-2.54) H7(3.81,-2.54) J1(-3.81,-3.81) J2(-2.54,-3.81) J3(-1.27,-3.81) J4(0,-3.81) J5(1.27,-3.81) J6(2.54,-3.81) J7(3.81,-3.81) K1(-3.81,-5.08) K2(-2.54,-5.08) K3(-1.27,-5.08) K4(0,-5.08) K5(1.27,-5.08) K6(2.54,-5.08) K7(3.81,-5.08) L1(-3.81,-6.35) L2(-2.54,-6.35) L3(-1.27,-6.35) L4(0,-6.35) L5(1.27,-6.35) L6(2.54,-6.35) L7(3.81,-6.35)
Top Overlay:
  region: -3.582,7.5 -4.5,6.582 -4.5,7.5
  lines w0.178: -4.5,6.582 -3.582,7.5 ; -4.5,-7.5 -4.5,7.5 4.5,7.5 4.5,-7.5 -4.5,-7.5
  text "A" at -5.715,5.969 h0.89
  text "B" at -5.715,4.699 h0.89
  text "C" at -5.715,3.429 h0.89
  text "D" at -5.715,2.159 h0.89
  text "E" at -5.715,0.889 h0.89
  text "F" at -5.715,-0.381 h0.89
  text "G" at -5.715,-1.651 h0.89
  text "H" at -5.715,-2.921 h0.89
  text "J" at -5.715,-4.191 h0.89
  text "K" at -5.715,-5.461 h0.89
  text "L" at -5.715,-6.731 h0.89
  text "1" at -4.191,7.874 h0.89
  text "2" at -2.921,7.874 h0.89
  text "3" at -1.651,7.874 h0.89
  text "4" at -0.381,7.874 h0.89
  text "5" at 0.889,7.874 h0.89
  text "6" at 2.159,7.874 h0.89
  text "7" at 3.429,7.874 h0.89
Mechanical 13:
  lines w0.1: -4.5,-7.5 -4.5,7.5 4.5,7.5 4.5,-7.5 -4.5,-7.5
Mechanical 15:
  lines w0.1: -0.5,0 0.5,0 ; 0,-0.5 0,0.5
3D body: height 5.21, standoff 0.7, extent -4.5,-7.5 4.5,7.5

## MM3Z5V1 [mm]
pads (2):
  rect 1x0.3 smd: 1(-1.25,0) 2(1.25,0)
Top Overlay:
  lines w0.178: -2.464,0.025 -1.956,0.025 ; -2.21,-0.229 -2.21,0.279 ; -0.85,-0.356 -0.85,-0.625 0.85,-0.625 0.85,-0.356 ; -0.85,0.356 -0.85,0.625 0.85,0.625 0.85,0.356 ; -0.813,0.406 -0.686,0.533 ; -0.787,-0.406 -0.66,-0.533